# EAGLE library part MPC15 (library MPC15_v5)
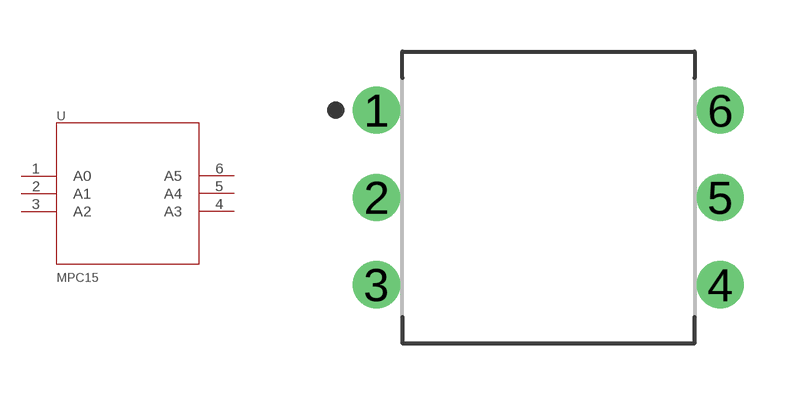
[diagram p0: symbol with the pads of DIP1000W53P254L850H340Q6B; footprint DIP1000W53P254L850H340Q6B]

Designator prefix U

## MPC15  [DIP1000W53P254L850H340Q6B]
1  A0  nc
2  A1  nc
3  A2  nc
4  A3  sup
5  A4  out
6  A5  pwr

## Footprint DIP1000W53P254L850H340Q6B (pad centres in mm)
6-DIP, 2.54 mm (0.10 in) pitch, 10.00 mm (0.39 in) span, 8.50 X 8.50 X 3.40 mm body 6-pin DIP package with 2.54 mm (0.10 in) pitch, 10.00 mm (0.39 in) span with body size 8.50 X 8.50 X 3.40 mm
drill 0.774 pad 1.374: 1 -5,2.54; 2 -5,0; 3 -5,-2.54; 4 5,-2.54; 5 5,0; 6 5,2.54